# Altium schematic symbol library Schlib1.SchLib: 16 symbols
Pins are listed as number, name and electrical type; pins without a type are passive.

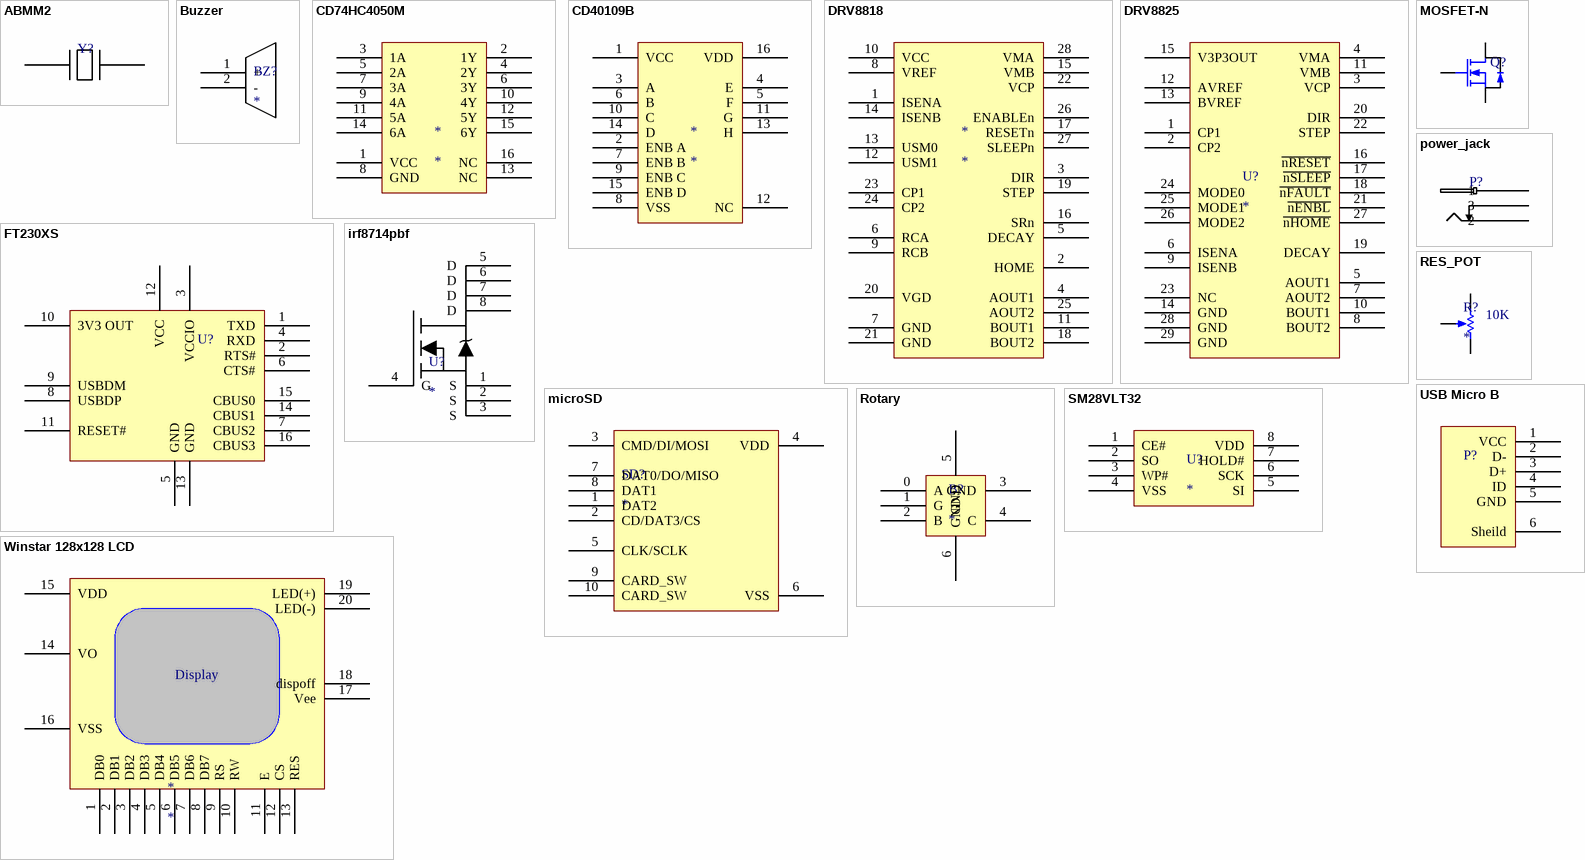
[diagram p0: symbols ABMM2 to Winstar 128x128 LCD]

## ABMM2
designator Y?  (value not drawn)
footprint ABMM2
pins: 1, 2 hidden to GND, 3, 4 hidden to GND

## Buzzer
designator BZ?
footprint PCBComponent_1 - duplicate1
pins: 1 +, 2 -

## CD74HC4050M
designator *
pins: 1 VCC, 2 1Y, 3 1A, 4 2Y, 5 2A, 6 3Y, 7 3A, 8 GND, 9 4A, 10 4Y, 11 5A, 12 5Y, 13 NC, 14 6A, 15 6Y, 16 NC

## CD40109B
designator *
pins: 1 VCC, 2 ENB A, 3 A, 4 E, 5 F, 6 B, 7 ENB B, 8 VSS, 9 ENB C, 10 C, 11 G, 12 NC, 13 H, 14 D, 15 ENB D, 16 VDD

## DRV8818
designator *
pins: 1 ISENA, 2 HOME, 3 DIR, 4 AOUT1, 5 DECAY, 6 RCA, 7 GND, 8 VREF, 9 RCB, 10 VCC, 11 BOUT1, 12 USM1, 13 USM0, 14 ISENB, 15 VMB, 16 SRn, 17 RESETn, 18 BOUT2, 19 STEP, 20 VGD, 21 GND, 22 VCP, 23 CP1, 24 CP2, 25 AOUT2, 26 ENABLEn, 27 SLEEPn, 28 VMA

## DRV8825
designator U?
footprint DVR (Footprint not found)
pins: 1 CP1, 2 CP2, 3 VCP, 4 VMA, 5 AOUT1, 6 ISENA, 7 AOUT2, 8 BOUT2, 9 ISENB, 10 BOUT1, 11 VMB, 12 AVREF, 13 BVREF, 14 GND, 15 V3P3OUT, 16 ~{nRESET}, 17 ~{nSLEEP}, 18 ~{nFAULT}, 19 DECAY, 20 DIR, 21 ~{nENBL}, 22 STEP, 23 NC, 24 MODE0, 25 MODE1, 26 MODE2, 27 ~{nHOME}, 28 GND, 29 GND

## FT230XS
designator U?  (value not drawn)
footprint SSOP16_N (Footprint not found)
pins: 1 TXD, 2 RTS#, 3 VCCIO, 4 RXD, 5 GND, 6 CTS#, 7 CBUS2, 8 USBDP, 9 USBDM, 10 3V3 OUT, 11 RESET#, 12 VCC, 13 GND, 14 CBUS1, 15 CBUS0, 16 CBUS3

## irf8714pbf
designator U?
footprint SO-8_M (8-Pin Plastic Small Outline Integrated Circuit 1.27 mm Pitch, IPC Low Density)
pins: 1 S, 2 S, 3 S, 4 G, 5 D, 6 D, 7 D, 8 D

## microSD
designator SD?
pins: 1 DAT2, 2 CD/DAT3/CS, 3 CMD/DI/MOSI, 4 VDD, 5 CLK/SCLK, 6 VSS, 7 DAT0/DO/MISO, 8 DAT1, 9 CARD_SW, 10 CARD_SW

## MOSFET-N
designator Q?
N-Channel MOSFET; Published: 8-Jun-2000; LatestRevisionDate: 17-Jul-2002; LatestRevisionNote: Re-released for DXP Platform.; PackageVersion: 1995/1996; PackageReference: E3; Publisher: Altium Limited; PackageDescription: TO, Flat Index; 3 In-Line, Axial Leads; Body Dia. 4.6mm; Lead Dia. 0.5 mm (max)
footprint SOT23
pins: 1 G, 2 S, 3 D

## power_jack
designator P?  (value not drawn)
footprint PowerJack
pins: 1, 2, 3

## RES_POT
designator R?
footprint RES_SMD
pins: 1 TOP, 2 BOT, 3 TAP
text: 10K

## Rotary
designator B?
footprint Rotary
pins: 0 A, 1 G, 2 B, 3 GND, 4 C, 5 GND, 6 GND

## SM28VLT32
designator U?
footprint SOIC8WA_N (Footprint not found)
pins: 1 CE#, 2 SO, 3 WP#, 4 VSS, 5 SI, 6 SCK, 7 HOLD#, 8 VDD

## USB Micro B
designator P?  (value not drawn)
footprint USB micro B
pins: 1 VCC, 2 D-, 3 D+, 4 ID, 5 GND, 6 Sheild

## Winstar 128x128 LCD
designator *
footprint LCD
pins: 1 DB0, 2 DB1, 3 DB2, 4 DB3, 5 DB4, 6 DB5, 7 DB6, 8 DB7, 9 RS, 10 RW, 11 E, 12 CS, 13 RES, 14 VO, 15 VDD, 16 VSS, 17 Vee, 18 dispoff, 19 LED(+), 20 LED(-)
text: Display